# Altium schematic symbol library Trans_Infineon_IRF540NPBF_eec.SchLib: 1 symbol
Pins are listed as number, name and electrical type; pins without a type are passive.

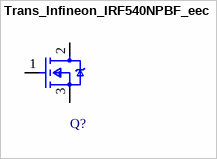
[diagram p0: symbol Trans_Infineon_IRF540NPBF_eec]

## Trans_Infineon_IRF540NPBF_eec
designator Q?
TRANS MOSFET N-CH 100V 33A TO-220AB; Part Number: IRF540NPBF; Manufacturer: Infineon; Vgs (Max): ±20V; Power Dissipation (Max): 130W; helpURL: https://upverter.com/upn/revision/62782e0a3528cc6f/; ComponentLink2Description: Datasheet; Temperature: -55°C to +175°C; Package: TO-220AB; Supplier 2: Mouser; Price: 0.985460972103; Supplier 1: Digi-Key; ComponentLink1URL: https://upverter.com/upn/revision/62782e0a3528cc6f/; Supplier Part Number 2: 942-IRF540NPBF; Supplier Part Number 1: IRF540NPBF-ND; ComponentLink1Description: Upverter; ComponentLink2URL: https://upverter.com/datasheet/5308f6ed8ea707896f3dcb9c5bff2bbed3412a6b.pdf; RoHS: TRUE; Mouser Part Number: 942-IRF540NPBF; Ipc Land Pattern Name: TO-220; Temperature Range High: +175°C; Digikey Description: TRANS MOSFET N-CH 100V 33A TO-220AB; Digikey Part Number: IRF540NPBF-ND; Lead Free: yes; Temperature Range Low: -55°C; Current - Continuous Drain (Id) @ 25°C: 33A
footprint Infineon_IRF540NPBF_0
pins: 1 GATE, 2 DRAIN, 3 SOURCE